# Altium schematic symbol library Symbol.SchLib: 8 symbols
Pins are listed as number, name and electrical type; pins without a type are passive.

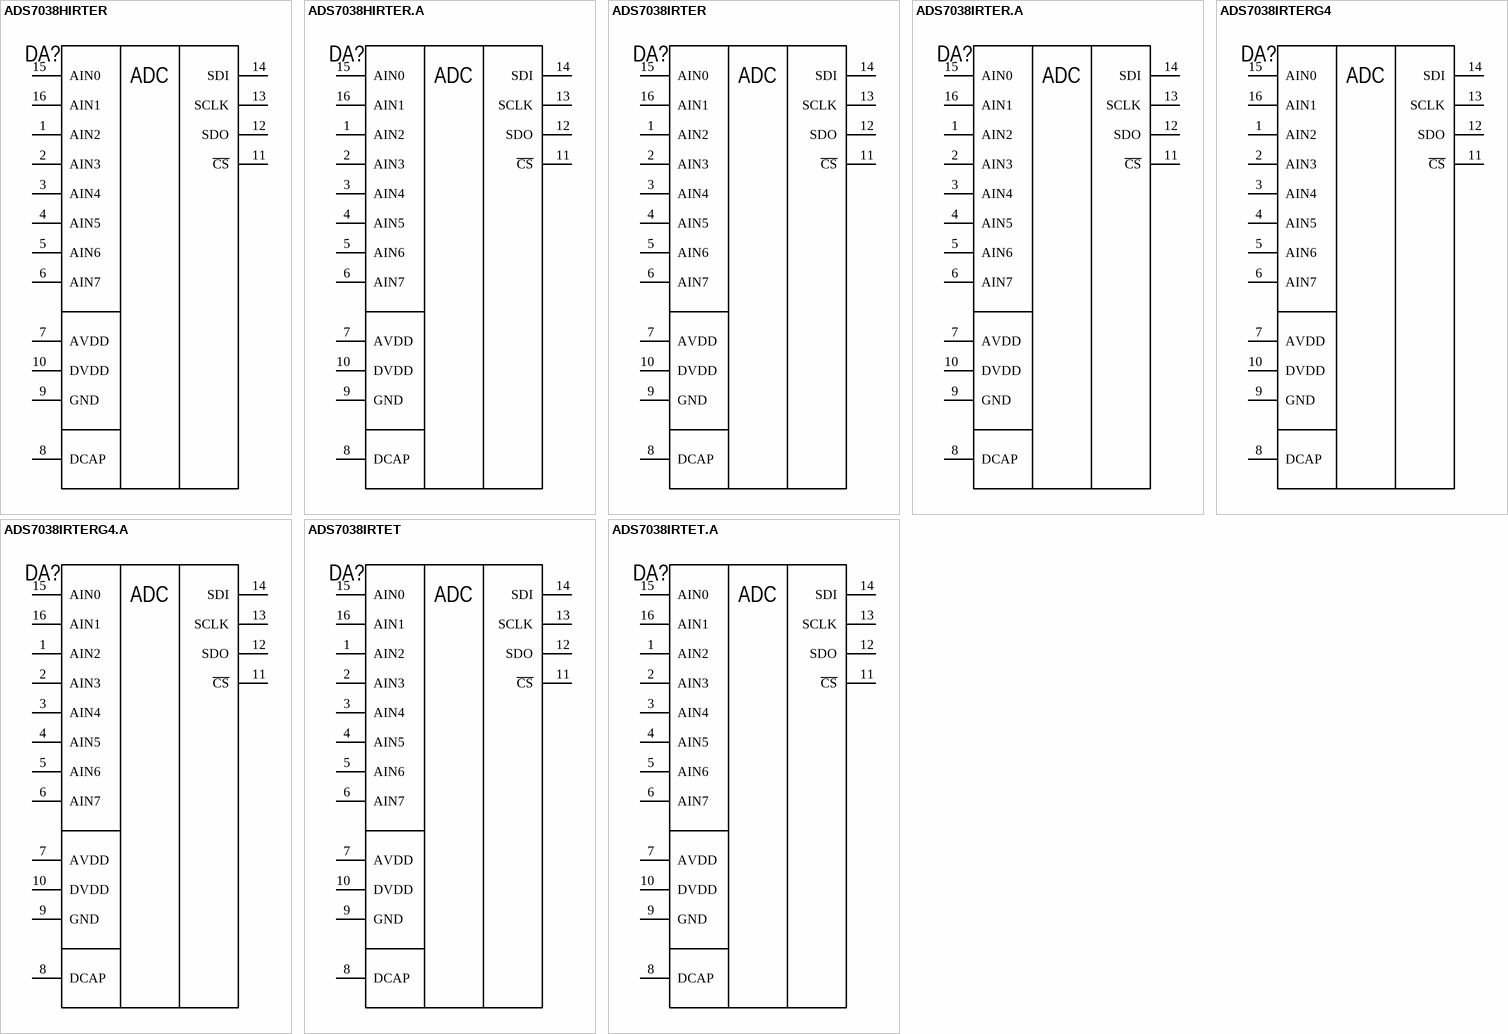
[diagram p0: symbols ADS7038HIRTER to ADS7038IRTET.A]

## ADS7038HIRTER
designator DA?  (value not drawn)
Small, 8-Channel, 12-Bit ADC With SPI Interface, GPIOs, and CRC
footprint RTE0016C (WQFN, 17-Leads, Body 3.10x3.10 mm, IPC Medium Density)
pins: 1 AIN2, 2 AIN3, 3 AIN4, 4 AIN5, 5 AIN6, 6 AIN7, 7 AVDD, 8 DCAP, 9 GND, 10 DVDD, 11 ~{CS}, 12 SDO, 13 SCLK, 14 SDI, 15 AIN0, 16 AIN1
text: ADC

## ADS7038HIRTER.A
designator DA?  (value not drawn)
Small, 8-Channel, 12-Bit ADC With SPI Interface, GPIOs, and CRC
footprint RTE0016C (WQFN, 17-Leads, Body 3.10x3.10 mm, IPC Medium Density)
pins: 1 AIN2, 2 AIN3, 3 AIN4, 4 AIN5, 5 AIN6, 6 AIN7, 7 AVDD, 8 DCAP, 9 GND, 10 DVDD, 11 ~{CS}, 12 SDO, 13 SCLK, 14 SDI, 15 AIN0, 16 AIN1
text: ADC

## ADS7038IRTER
designator DA?  (value not drawn)
Small, 8-Channel, 12-Bit ADC With SPI Interface, GPIOs, and CRC
footprint RTE0016C (WQFN, 17-Leads, Body 3.10x3.10 mm, IPC Medium Density)
pins: 1 AIN2, 2 AIN3, 3 AIN4, 4 AIN5, 5 AIN6, 6 AIN7, 7 AVDD, 8 DCAP, 9 GND, 10 DVDD, 11 ~{CS}, 12 SDO, 13 SCLK, 14 SDI, 15 AIN0, 16 AIN1
text: ADC

## ADS7038IRTER.A
designator DA?  (value not drawn)
Small, 8-Channel, 12-Bit ADC With SPI Interface, GPIOs, and CRC
footprint RTE0016C (WQFN, 17-Leads, Body 3.10x3.10 mm, IPC Medium Density)
pins: 1 AIN2, 2 AIN3, 3 AIN4, 4 AIN5, 5 AIN6, 6 AIN7, 7 AVDD, 8 DCAP, 9 GND, 10 DVDD, 11 ~{CS}, 12 SDO, 13 SCLK, 14 SDI, 15 AIN0, 16 AIN1
text: ADC

## ADS7038IRTERG4
designator DA?  (value not drawn)
Small, 8-Channel, 12-Bit ADC With SPI Interface, GPIOs, and CRC
footprint RTE0016C (WQFN, 17-Leads, Body 3.10x3.10 mm, IPC Medium Density)
pins: 1 AIN2, 2 AIN3, 3 AIN4, 4 AIN5, 5 AIN6, 6 AIN7, 7 AVDD, 8 DCAP, 9 GND, 10 DVDD, 11 ~{CS}, 12 SDO, 13 SCLK, 14 SDI, 15 AIN0, 16 AIN1
text: ADC

## ADS7038IRTERG4.A
designator DA?  (value not drawn)
Small, 8-Channel, 12-Bit ADC With SPI Interface, GPIOs, and CRC
footprint RTE0016C (WQFN, 17-Leads, Body 3.10x3.10 mm, IPC Medium Density)
pins: 1 AIN2, 2 AIN3, 3 AIN4, 4 AIN5, 5 AIN6, 6 AIN7, 7 AVDD, 8 DCAP, 9 GND, 10 DVDD, 11 ~{CS}, 12 SDO, 13 SCLK, 14 SDI, 15 AIN0, 16 AIN1
text: ADC

## ADS7038IRTET
designator DA?  (value not drawn)
Small, 8-Channel, 12-Bit ADC With SPI Interface, GPIOs, and CRC
footprint RTE0016C (WQFN, 17-Leads, Body 3.10x3.10 mm, IPC Medium Density)
pins: 1 AIN2, 2 AIN3, 3 AIN4, 4 AIN5, 5 AIN6, 6 AIN7, 7 AVDD, 8 DCAP, 9 GND, 10 DVDD, 11 ~{CS}, 12 SDO, 13 SCLK, 14 SDI, 15 AIN0, 16 AIN1
text: ADC

## ADS7038IRTET.A
designator DA?  (value not drawn)
Small, 8-Channel, 12-Bit ADC With SPI Interface, GPIOs, and CRC
footprint RTE0016C (WQFN, 17-Leads, Body 3.10x3.10 mm, IPC Medium Density)
pins: 1 AIN2, 2 AIN3, 3 AIN4, 4 AIN5, 5 AIN6, 6 AIN7, 7 AVDD, 8 DCAP, 9 GND, 10 DVDD, 11 ~{CS}, 12 SDO, 13 SCLK, 14 SDI, 15 AIN0, 16 AIN1
text: ADC